# Altium schematic symbol library 78稳压块.SCHLIB: 5 symbols
Pins are listed as number, name and electrical type; pins without a type are passive.

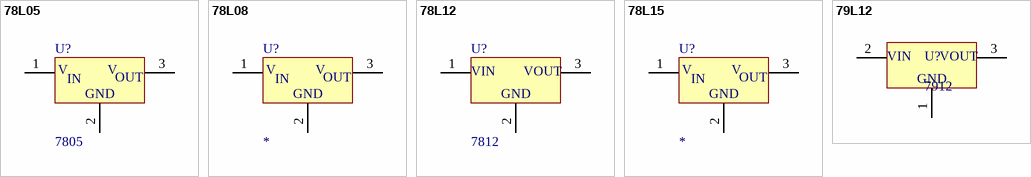
[diagram p0: symbols 78L05 to 79L12]

## 78L05
designator U?, comment 7805
3-Terminal Positive Voltage Regulator
footprint VR5
simulation model 78L05 (SUBCKT)
pins: 1 VIN, 2 GND, 3 VOUT
text: V; IN; OUT

## 78L08
designator U?
3-Terminal Positive Voltage Regulator
footprint 78XX
simulation model 78L08 (SUBCKT)
pins: 1 VIN, 2 GND, 3 VOUT
text: V; IN; OUT

## 78L12
designator U?, comment 7812
3-Terminal Positive Voltage Regulator
footprint VR5
simulation model 78L12 (SUBCKT)
pins: 1 VIN, 2 GND, 3 VOUT

## 78L15
designator U?
3-Terminal Positive Voltage Regulator
footprint 78XX
simulation model 78L15 (SUBCKT)
pins: 1 VIN, 2 GND, 3 VOUT
text: V; IN; OUT

## 79L12
designator U?, comment 7912
footprint VR5
pins: 1 VIN, 2 GND, 3 VOUT